# Altium footprint library SPITempSensor.PcbLib: 1 footprints
Each footprint in its own frame and in the unit in brackets; x right, y up, seen from the top. Pads: shape width x height; smd on the part's side, far side on the other; paste and mask are expansions set on the pad; w line width, h text height; cw(c..) or ccw(c..) is an arc to the next point about the centre after c.
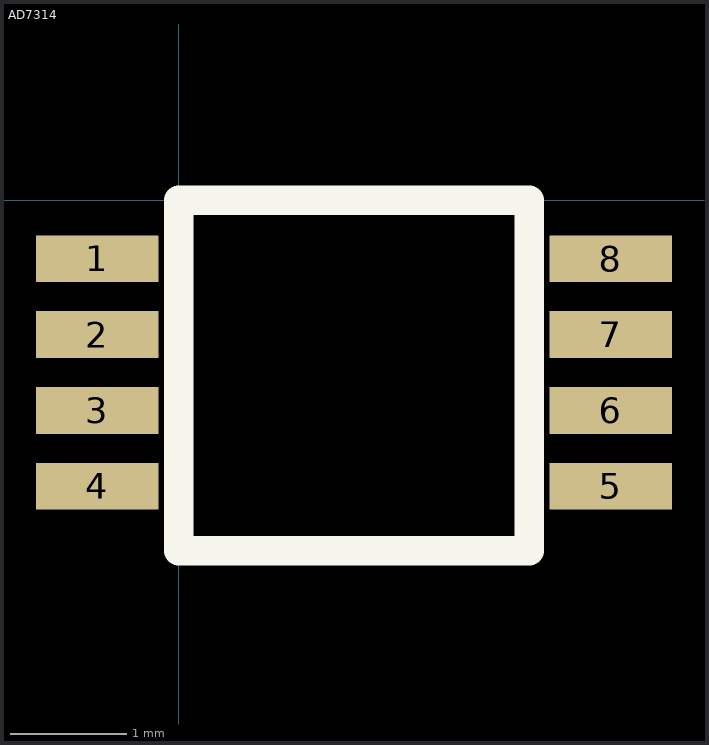
[diagram p0: the footprint, top view; thin cyan lines are the x and y axes]

## AD7314 [mm] "SPI Temp Sensor"
height 1.1
pads (8):
  rect 1.05x0.4 smd: 1(-0.7,-0.5) 2(-0.7,-1.15) 3(-0.7,-1.8) 4(-0.7,-2.45) 5(3.7,-2.45) 6(3.7,-1.8) 7(3.7,-1.15) 8(3.7,-0.5)
Top Overlay:
  lines w0.254: 0,-3 3,-3 3,0 0,0 0,-3